# EAGLE library part TEN_20-7212WIR (library MODULES)
Isolated Board Mount DC/DC Converter, Metal Case, DIP, Fixed, Adjustable, Through Hole, 20 W, 12 V
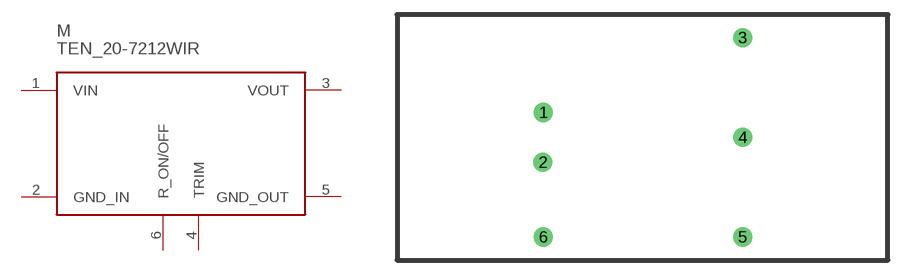
[diagram p6: symbol with the pads of TEN_20-7212WIR; footprint TEN_20-7212WIR]

Designator prefix M

## TEN_20-7212WIR (FARNELL: 2280065; PRICE_PER: 56.75; VALUE: TEN 20-7212WIR)  [TEN_20-7212WIR]
1  VIN
2  GND_IN
3  VOUT
4  TRIM
5  GND_OUT
6  R_ON/OFF

## Footprint TEN_20-7212WIR (pad centres in mm)
drill 1.3: 1 -10.12,2.54; 2 -10.16,-2.54; 3 10.2,10.16; 4 10.2,0; 5 10.2,-10.16; 6 -10.12,-10.16